# EAGLE library part NRF52840-QFAA-F-R7 (library nRF52840-QFAA-F-R7)
RF System on a Chip - SoC Multiprotocol Bluetooth 5.3 SoC supporting Bluetooth Low Energy, Bluetooth mesh, NFC, Thread and Zigbee Source: Datasheet <https://infocenter.nordicsemi.com/pdf/nRF52840_PS_v1.7.pdf>
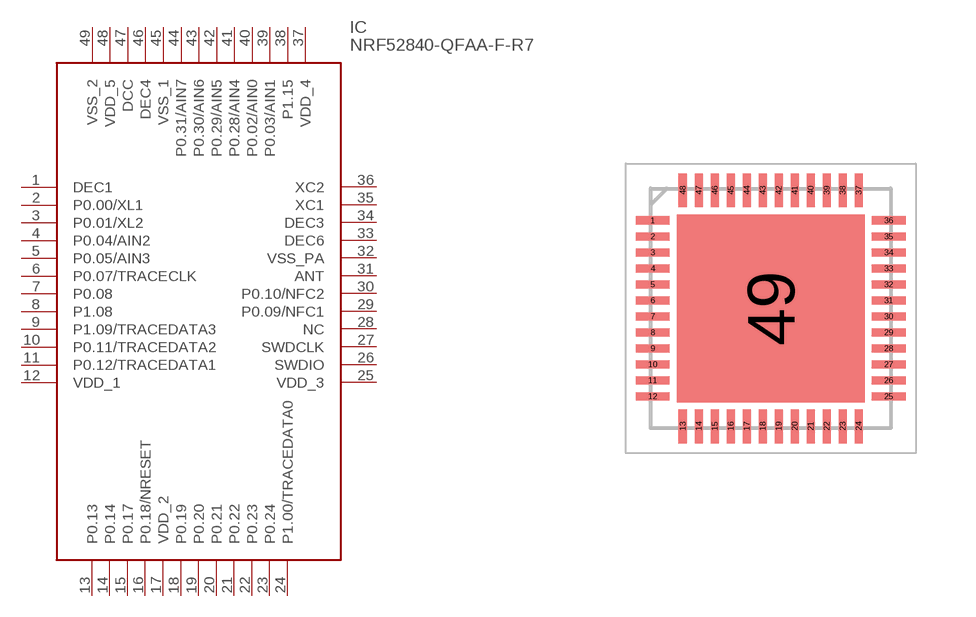
[diagram p0: symbol with the pads of QFN40P600X600X95-49N; footprint QFN40P600X600X95-49N]

Designator prefix IC

## NRF52840-QFAA-F-R7 (Description: RF System on a Chip - SoC Multiprotocol Bluetooth 5.3 SoC supporting Bluetooth Low Energy, Bluetooth mesh, NFC, Thread and Zigbee; Height: 0.95mm; Manufacturer_Name: Nordic Semiconductor; Manufacturer_Part_Number: nRF52840-QFAA-F-R7; Mouser_Part_Number: 949-NRF52840QFAAF-R7; Mouser_Price-Stock: https://www.mouser.co.uk/ProductDetail/Nordic-Semiconductor/nRF52840-QFAA-F-R7?qs=TCDPyi3sCW2TA2kPWr8xHQ%3D%3D)  [QFN40P600X600X95-49N]
1  DEC1
2  P0.00/XL1
3  P0.01/XL2
4  P0.04/AIN2
5  P0.05/AIN3
6  P0.07/TRACECLK
7  P0.08
8  P1.08
9  P1.09/TRACEDATA3
10  P0.11/TRACEDATA2
11  P0.12/TRACEDATA1
12  VDD_1
13  P0.13
14  P0.14
15  P0.17
16  P0.18/NRESET
17  VDD_2
18  P0.19
19  P0.20
20  P0.21
21  P0.22
22  P0.23
23  P0.24
24  P1.00/TRACEDATA0
25  VDD_3
26  SWDIO
27  SWDCLK
28  NC  nc
29  P0.09/NFC1
30  P0.10/NFC2
31  ANT
32  VSS_PA
33  DEC6
34  DEC3
35  XC1
36  XC2
37  VDD_4
38  P1.15
39  P0.03/AIN1
40  P0.02/AIN0
41  P0.28/AIN4
42  P0.29/AIN5
43  P0.30/AIN6
44  P0.31/AIN7
45  VSS_1
46  DEC4
47  DCC
48  VDD_5
49  VSS_2

## Footprint QFN40P600X600X95-49N (pad centres in mm)
QFN48 6 x 6 mm
smd 0.85 x 0.2: 1 -2.95,2.2; 2 -2.95,1.8; 3 -2.95,1.4; 4 -2.95,1; 5 -2.95,0.6; 6 -2.95,0.2; 7 -2.95,-0.2; 8 -2.95,-0.6; 9 -2.95,-1; 10 -2.95,-1.4; 11 -2.95,-1.8; 12 -2.95,-2.2; 25 2.95,-2.2; 26 2.95,-1.8; 27 2.95,-1.4; 28 2.95,-1; 29 2.95,-0.6; 30 2.95,-0.2; 31 2.95,0.2; 32 2.95,0.6; 33 2.95,1; 34 2.95,1.4; 35 2.95,1.8; 36 2.95,2.2
smd 0.2 x 0.85: 13 -2.2,-2.95; 14 -1.8,-2.95; 15 -1.4,-2.95; 16 -1,-2.95; 17 -0.6,-2.95; 18 -0.2,-2.95; 19 0.2,-2.95; 20 0.6,-2.95; 21 1,-2.95; 22 1.4,-2.95; 23 1.8,-2.95; 24 2.2,-2.95; 37 2.2,2.95; 38 1.8,2.95; 39 1.4,2.95; 40 1,2.95; 41 0.6,2.95; 42 0.2,2.95; 43 -0.2,2.95; 44 -0.6,2.95; 45 -1,2.95; 46 -1.4,2.95; 47 -1.8,2.95; 48 -2.2,2.95
smd 4.7 x 4.7: 49 0,0